# Altium schematic symbol library crystal.SchLib: 43 symbols
Pins are listed as number, name and electrical type; pins without a type are passive.

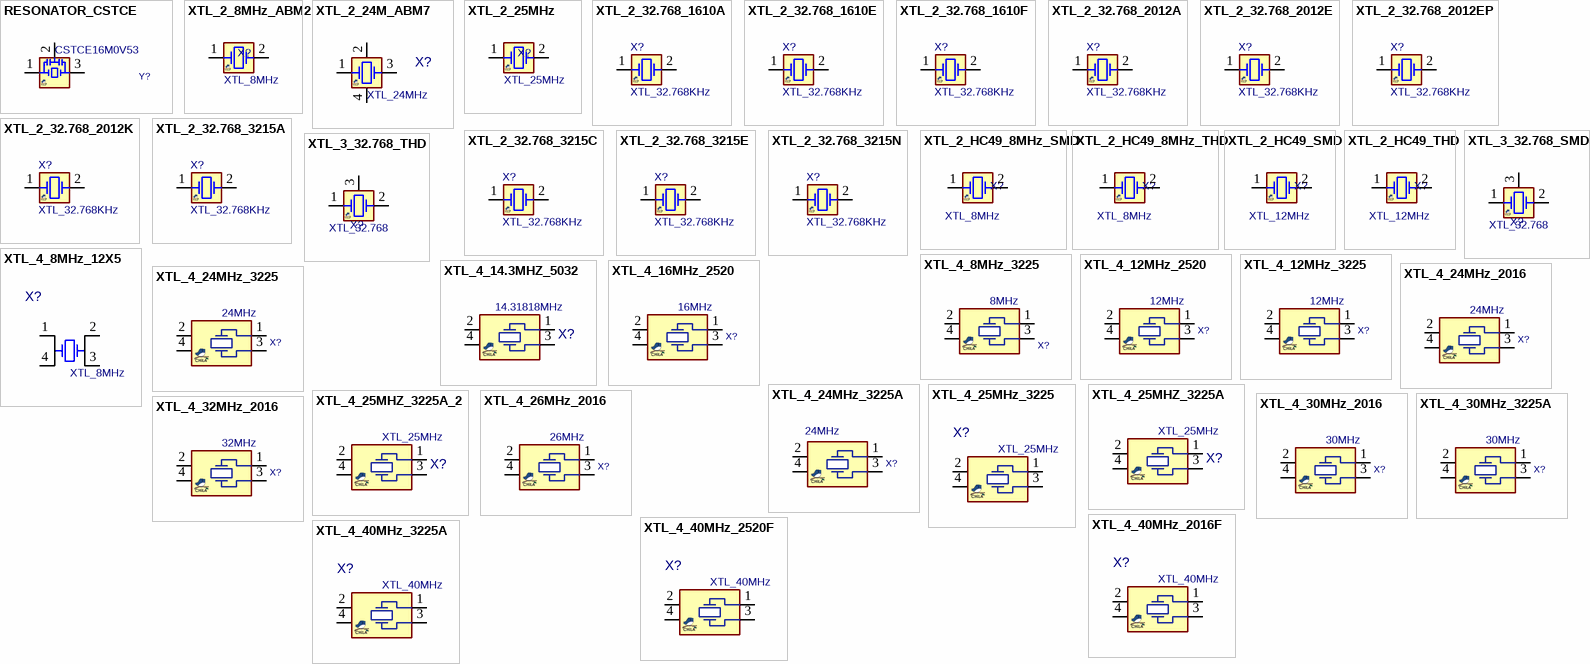
[diagram p0: symbols RESONATOR_CSTCE to XTL_4_40MHz_3225A]

## RESONATOR_CSTCE
designator Y?, comment CSTCE16M0V53
MANF: MURATA; MANF_P#: CSTCE16M0V53-R0; VALUE: CSTCE16M0V53
footprint XTL_3_3213 (Crystal resonator CSTCE 3-lead 3.2 mm x 1.3 mm)
pins: 1 OSC1, 2, 3 OSC2

## XTL_2_8MHz_ABM2
designator X?, comment XTL_8MHz
Crystal 2; MANF: ABRACON; PARAM: 30PPM; PARAM2: 18PF; MANF_P#: ABM2-8.000MHZ-D4Y-T; ASSEMBLY: ASSEMBLY; PRICE: 0.73$; Value: XTL_8MHz
footprint XTL_2_8045 (ABM2 8.0X4.5x1.4mm)
simulation model XTAL (Spice Subcircuit)
pins: 1 OSC1, 2 OSC2

## XTL_2_24M_ABM7
designator X?, comment XTL_24MHz
CRYSTAL,; MANF: ABRACON; PARAM: 50PPM; DESC: DESCRIPTION; DIST#: MOUSER; MANF_P#: ABM7-24.000MHZ-D-2-Y-T; ASSEMBLY: ASSEMBLY; PRICE: PRICE; VALUE: XTL_24MHz
footprint XTL_2_6035 (ABM7 6.2X3.5mm, 6.0X3.5mm)
pins: 1, 2 GND2, 3 2, 4 GND4

## XTL_2_25MHz
designator X?, comment XTL_25MHz
Crystal 2 5X3.2mm; MANF_PART#2: ABM3C-25.000MHZ-D4Y-T; MANF_PART#3: 445I23D25M00000; DIST#: 815-ABM3-25-B2-T; DESC: CLOCK, CRYSTAL, 25MHz; MANF: ABRACON; PARAM: 20PPM; PARAM2: 18PF; MANF_P#: ABM3-25.000MHZ-B2-T; ASSEMBLY: ASSEMBLY; PRICE: *; Value: XTL_25MHz
footprint XTL_2_5032 (ABM3)
simulation model XTAL (Spice Subcircuit)
pins: 1 OSC1, 2 OSC2

## XTL_2_32.768_1610A
designator X?, comment XTL_32.768KHz
Crystal, 32.768KHz, 9pF, 20PPM; MANF: ABRACON; MANF_P#: ABS05-32.768KHZ-9-T; PARAM: -40~85oC; PARAM2: 9pF, 20PPM; PRICE: 0.8$; VALUE: XTL_32.768KHz
footprint XTL_2_1610 (Crystals 1.6 mm x 1.0 mm)
pins: 1 OSC1, 2 OSC2

## XTL_2_32.768_1610E
designator X?, comment XTL_32.768KHz
Crystal, 32.768KHz, 12pF, 20PPM; MANF: ECS; MANF_P#: ECS-.327-12.5-16-TR; PARAM: -40~85oC; PARAM2: 12pF, 20PPM; PRICE: 0.9$; VALUE: XTL_32.768KHz
footprint XTL_2_1610 (Crystals 1.6 mm x 1.0 mm)
pins: 1 OSC1, 2 OSC2

## XTL_2_32.768_1610F
designator X?, comment XTL_32.768KHz
Crystal, 32.768KHz, 12pF, 20PPM; MANF: FOX; MANF_P#: FK161EIHM0.032768; PARAM: -40~85oC; PARAM2: 12pF, 20PPM; PRICE: 1$; VALUE: XTL_32.768KHz
footprint XTL_2_1610 (Crystals 1.6 mm x 1.0 mm)
pins: 1 OSC1, 2 OSC2

## XTL_2_32.768_2012A
designator X?, comment XTL_32.768KHz
Crystal, 32.768KHz, 3pF, 20PPM; MANF: ABRACON; MANF_P#: ABS06-32.768KHz-1-T; PARAM: -40~85oC; PARAM2: 3pF, 20PPM; PRICE: 0.8$; VALUE: XTL_32.768KHz
footprint XTL_2_2012 (ABS06 2.0X1.2mm)
pins: 1 OSC1, 2 OSC2

## XTL_2_32.768_2012E
designator X?, comment XTL_32.768KHz
Crystal, 32.768KHz, 6pF, 20PPM; MANF: ECS; MANF_P#: ECS-.327-6-12-TR; PARAM: -40~85oC; PARAM2: 6pF, 20PPM; PRICE: 0.8$; VALUE: XTL_32.768KHz
footprint XTL_2_2012 (ABS06 2.0X1.2mm)
pins: 1 OSC1, 2 OSC2

## XTL_2_32.768_2012EP
designator X?, comment XTL_32.768KHz
Crystal, 32.768KHz, 12pF, 20PPM; MANF: EPSON; MANF_P#: FC-12M 32.7680KA-A3; PARAM: -40~85oC; PARAM2: 12pF, 20PPM; PRICE: 0.8$; VALUE: XTL_32.768KHz
footprint XTL_2_2012 (ABS06 2.0X1.2mm)
pins: 1 OSC1, 2 OSC2

## XTL_2_32.768_2012K
designator X?, comment XTL_32.768KHz
Crystal, 32.768KHz, 9pF, 20PPM; MANF: AVX/Kyocera; MANF_P#: ST2012SB32768E0HPWBB; PARAM: -40~85oC; PARAM2: 9pF, 20PPM; PRICE: 0.7$; VALUE: XTL_32.768KHz
footprint XTL_2_2012 (ABS06 2.0X1.2mm)
pins: 1 OSC1, 2 OSC2

## XTL_2_32.768_3215A
designator X?, comment XTL_32.768KHz
Crystal, 32.768KHz, 3pF, 20PPM; MANF: ABRACON; MANF_P#: ABS07W-32.768kHz-D-2-T; PARAM: -40~85oC; PARAM2: 3pF, 20PPM; PRICE: 1$; VALUE: XTL_32.768KHz
footprint XTL_2_3215 (ABS07 3.2x1.5mm)
pins: 1 OSC1, 2 OSC2

## XTL_2_32.768_3215C
designator X?, comment XTL_32.768KHz
Crystal, 32.768KHz, 5pF, 20PPM; MANF: CTS; MANF_P#: TFE322T32K7680R; PARAM: -40~85oC; PARAM2: 5pF, 20PPM; PRICE: 0.9$; VALUE: XTL_32.768KHz
footprint XTL_2_3215 (ABS07 3.2x1.5mm)
pins: 1 OSC1, 2 OSC2

## XTL_2_32.768_3215E
designator X?, comment XTL_32.768KHz
Crystal, 32.768KHz, 6pF, 20PPM; MANF: ECS; MANF_P#: ECS-.327-CDX-1128; PARAM: -40~85oC; PARAM2: 6pF, 20PPM; PRICE: 0.6$; VALUE: XTL_32.768KHz
footprint XTL_2_3215 (ABS07 3.2x1.5mm)
pins: 1 OSC1, 2 OSC2

## XTL_2_32.768_3215N
designator X?, comment XTL_32.768KHz
Crystal, 32.768KHz, 6pF, 20PPM; MANF: NDK; MANF_P#: NX3215SA-32.768KHZ; PARAM2: 6/9/12pF, 20PPM; PARAM: -40~125oC; PRICE: 0.6$; VALUE: XTL_32.768KHz
footprint XTL_2_3215 (ABS07 3.2x1.5mm)
pins: 1 OSC1, 2 OSC2

## XTL_2_HC49_8MHz_SMD
designator X?, comment XTL_8MHz
Crystal MOST POPULAR ABL HC49 PACKAGE; MANF: ABRACON; MANF_P#: ABLS-8.000MHZ-B4-T; PARAM: 8MHz, 18pF, 30PPM, -20~70oC; PRICE: 0.3$; VALUE: XTL_8MHz
footprint XTL_2_11X5 (SMD crystal resonator, ABL, ABLS, HC-49, HC49 11X4.5MM)
pins: 1 OSC1, 2 OSC2

## XTL_2_HC49_8MHz_THD
designator X?, comment XTL_8MHz
Crystal MOST POPULAR ABL HC49 PACKAGE; MANF: ABRACON; MANF_P#: ABLS-8.000MHZ-B4-T; PARAM: 8MHz, 18pF, 30PPM, -20~70oC; PRICE: 0.3$; VALUE: XTL_8MHz
footprint XTLT_2 (Crystal PTH HC49S)
pins: 1 OSC1, 2 OSC2

## XTL_2_HC49_SMD
designator X?, comment XTL_12MHz
Crystal MOST POPULAR ABL HC49 PACKAGE; VALUE: XTL_12MHz
footprint XTL_2_11X5 (SMD crystal resonator, ABL, ABLS, HC-49, HC49 11X4.5MM)
pins: 1 OSC1, 2 OSC2

## XTL_2_HC49_THD
designator X?, comment XTL_12MHz
Crystal MOST POPULAR ABL HC49 PACKAGE; VALUE: XTL_12MHz
footprint XTLT_2 (Crystal PTH HC49S)
pins: 1 OSC1, 2 OSC2

## XTL_3_32.768_SMD
designator X?, comment XTL_32.768
Crystal MOST POPULAR PACKAGE; MANF: ABRACON; MANF_P#: AB26T-32.768KHZ; PARAM2: 12pF; PARAM: 20PPM, -40~85°C; VALUE: XTL_32.768
footprint XTL_RTC
pins: 1 OSC1, 2 OSC2, 3 CASE

## XTL_3_32.768_THD
designator X?, comment XTL_32.768
Crystal MOST POPULAR PACKAGE; MANF: ABRACON; MANF_P#: AB26T-32.768KHZ; PARAM2: 12pF; PARAM: 20PPM, -40~85°C; VALUE: XTL_32.768
footprint XTLT_RTC (CRYSTAL RTC SLEEP)
pins: 1 OSC1, 2 OSC2, 3 CASE

## XTL_4_8MHz_12X5
designator X?, comment XTL_8MHz
CRYSTAL 8 MHZ 7pF, 10PPM; MANF: ECS; PARAM: 30PPM, -40~85oC; DIST#: MOUSER; PARAM2: 18pF; MANF_P#: ECS-80-18-18-TR; ASSEMBLY: ASSEMBLY; PRICE: 1.7$; VALUE: XTL_8MHz
footprint XTL_4_12X5 (ABC2, SMD crystal, 11.8X5.5mm)
pins: 1, 2, 3, 4

## XTL_4_8MHz_3225
designator X?, comment 8MHz
Crystal 8MHz; MANF: ECS; MANF_P#: ECS-80-18-33-JGN-TR; PARAM: 30PPM, 20pF; PRICE: 0.5$; VALUE: 8MHz
footprint XTL_4_3225 (CRYSTAL OSCILATOR 3.2X2.5mm)
pins: 1, 2, 3 2, 4

## XTL_4_12MHz_2520
designator X?, comment 12MHz
Crystal 12MHz; MANF: JWT; MANF_P#: CM4012M00020T5074172; PARAM: ±30PPM, 20pF; PRICE: 0.05$; VALUE: 12MHz
footprint XTL_4_2520 (CRYSTAL OSCILATOR 2.5X2.0mm, ABM10, CDFN-4, ASDM)
pins: 1, 2, 3 2, 4

## XTL_4_12MHz_3225
designator X?, comment 12MHz
Crystal 12MHz; MANF: ECS; MANF_P#: ECS-120-18-33-JEM-TR; PARAM: 20PPM, 18pF; PRICE: 0.5$; VALUE: 12MHz
footprint XTL_4_3225 (CRYSTAL OSCILATOR 3.2X2.5mm)
pins: 1, 2, 3 2, 4

## XTL_4_14.3MHZ_5032
designator X?, comment 14.31818MHz
MANF: ABRACON; DESC: DESCRIPTION; DIST#: MOUSER; MANF_P#: ABM3B-14.31818MHZ-10-1-U-T; ASSEMBLY: ASSEMBLY; PARAM: PARAM; PRICE: PRICE; VALUE: 14.31818MHz
footprint XTL_4_5032
pins: 1, 2, 3 2, 4

## XTL_4_16MHz_2520
designator X?, comment 16MHz
Crystal 16MHz; MANF: ABRACON; MANF_P#: ABM10W-16.0000MHZ-4-D1X-T3; PARAM: 10PPM, -40~85oC; PRICE: 0.8$; VALUE: 16MHz
footprint XTL_4_2520 (CRYSTAL OSCILATOR 2.5X2.0mm, ABM10)
pins: 1, 2, 3 2, 4

## XTL_4_24MHz_2016
designator X?, comment 24MHz
Crystal 24MHz; MANF_P#: CN4024M00008001; PARAM2: 30PPM, 8pF; PARAM: -30~85oC; MANF: -; PRICE: 0.5$; VALUE: 24MHz
footprint XTL_4_2016 (ABM11)
pins: 1, 2, 3 2, 4

## XTL_4_24MHz_3225
designator X?, comment 24MHz
Crystal 24MHz; MANF: EPSON; MANF_P#: TSX-3225 24.0000MF10Z-C3; PARAM2: 10PPM, 18pF; PARAM: -20~75oC; PRICE: 0.5$; VALUE: 24MHz
footprint XTL_4_3225 (CRYSTAL OSCILATOR 3.2X2.5mm)
pins: 1, 2, 3 2, 4

## XTL_4_24MHz_3225A
designator X?, comment 24MHz
Crystal 24MHz; MANF: ABRACON; MANF_P#: ABM8W-24.0000MHZ-4-D1X-T3; PARAM2: 10PPM, 4pF; PARAM: -40~85oC; PRICE: 0.7$; VALUE: 24MHz
footprint XTL_4_3225 (CRYSTAL OSCILATOR 3.2X2.5mm)
pins: 1, 2, 3 2, 4

## XTL_4_25MHz_3225
designator X?, comment XTL_25MHz
CRYSTAL 25.00 MHZ 18pF, 10PPM; MANF: EPSON; DESC: DESCRIPTION; DIST#: MOUSER; PARAM2: PARAM; MANF_P#: TSX-3225 25.0000MF10P-C3; ASSEMBLY: ASSEMBLY; PARAM: 10PPM; PRICE: 0.5$; VALUE: XTL_25MHz
footprint XTL_4_3225 (CRYSTAL OSCILATOR 3.2X2.5mm)
pins: 1, 2, 3 2, 4

## XTL_4_25MHZ_3225A
designator X?, comment XTL_25MHz
CRYSTAL 25.00 MHZ 18pF, 50PPM; MANF: ABRACON; DESC: DESCRIPTION; DIST#: MOUSER; MANF_P#: ABM8-25.000MHZ-B2-T; PARAM2: 0.5$; ASSEMBLY: ASSEMBLY; PARAM: 50PPM; PRICE: PRICE; VALUE: XTL_25MHz
footprint XTL_4_3225 (CRYSTAL OSCILATOR 3.2X2.5mm)
pins: 1, 2, 3 2, 4

## XTL_4_25MHZ_3225A_2
designator X?, comment XTL_25MHz
CRYSTAL 25.00 MHZ 4pF, 10PPM; MANF: ABRACON; PARAM: 10PPM, 4pF, -40~85oC; DESC: DESCRIPTION; DIST#: MOUSER; MANF_P#: ABM8W-25.0000MHZ-4-D1X-T3; PARAM2: 0.6$; ASSEMBLY: ASSEMBLY; PRICE: PRICE; VALUE: XTL_25MHz
footprint XTL_4_3225 (CRYSTAL OSCILATOR 3.2X2.5mm)
pins: 1, 2, 3 2, 4

## XTL_4_26MHz_2016
designator X?, comment 26MHz
Crystal 26MHz; MANF: MURATA; MANF_P#: XRCGB26M000F1H00R0; PARAM2: 10ppm; PARAM: 6pF; PRICE: 1= 0.5$; VALUE: 26MHz
footprint XTL_4_2016
pins: 1, 2, 3 2, 4

## XTL_4_30MHz_2016
designator X?, comment 30MHz
Crystal 30MHz; MANF: MURATA; MANF_P#: XRCGB30M000F2P00R0; PARAM2: 30ppm; PARAM: 8pF; PRICE: 1= 0.6$; VALUE: 30MHz
footprint XTL_4_2016
pins: 1, 2, 3 2, 4

## XTL_4_30MHz_3225A
designator X?, comment 30MHz
Crystal 30MHz; MANF: ABRACON; MANF_P#: ABM8W-30.0000MHZ-6-D1X-T3; PARAM2: 10ppm; PARAM: 6pF; PRICE: 1= 0.66$; VALUE: 30MHz
footprint XTL_4_3225GEN (Footprint not found)
pins: 1, 2, 3 2, 4

## XTL_4_32MHz_2016
designator X?, comment 32MHz
Crystal 32MHz; MANF: MURATA; MANF_P#: XRCGB32M000FBH50R0; PARAM2: 10ppm; PARAM: 6pF; PRICE: 1= 0.3$; VALUE: 32MHz
footprint XTL_4_2016
pins: 1, 2, 3 2, 4

## XTL_4_40MHz_2016F
designator X?, comment XTL_40MHz
CRYSTAL 40.00 MHZ 7pF, 10PPM; MANF: DIODES; PARAM: 10PPM, -30~85oC; DESC: X1E000021036701; DIST#: MOUSER; PARAM2: 7pF, 40OhmESR; MANF_P#: FW400WFQA1; ASSEMBLY: ASSEMBLY; PRICE: 1$; VALUE: XTL_40MHz
footprint XTL_4_2016 (ABM11)
pins: 1, 2, 3 2, 4

## XTL_4_40MHz_2520F
designator X?, comment XTL_40MHz
CRYSTAL 40.00 MHZ 8pF, 10PPM; MANF: DIODES; PARAM: 10PPM, -30~85oC; DESC: X1E000021036701; DIST#: MOUSER; PARAM2: 8pF, 30OhmESR; MANF_P#: FH4000074Z; ASSEMBLY: ASSEMBLY; PRICE: 1$; VALUE: XTL_40MHz
footprint XTL_4_2520 (CRYSTAL OSCILATOR 2.5X2.0mm, ABM10)
pins: 1, 2, 3 2, 4

## XTL_4_40MHz_3225A
designator X?, comment XTL_40MHz
CRYSTAL 40.00 MHZ 4pF, 10PPM; MANF: ABRACON; PARAM: 10PPM, -20~70oC; DESC: X1E000021036701; DIST#: MOUSER; PARAM2: 4pF, 40OhmESR; MANF_P#: ABM8W-40.0000MHZ-4-B1U-T3; ASSEMBLY: ASSEMBLY; PRICE: 0.6$; VALUE: XTL_40MHz
footprint XTL_4_3225 (CRYSTAL OSCILATOR 3.2X2.5mm)
pins: 1, 2, 3 2, 4

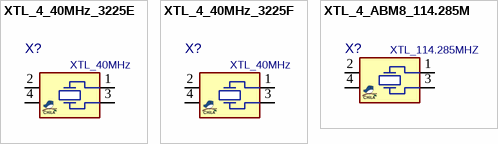
[diagram p1: symbols XTL_4_40MHz_3225E to XTL_4_ABM8_114.285M]

## XTL_4_40MHz_3225E
designator X?, comment XTL_40MHz
CRYSTAL 40.00 MHZ 7pF, 10PPM; MANF: EPSON; PARAM: 10PPM, -30~85oC; DESC: X1E000021036701; DIST#: MOUSER; PARAM2: 7pF, 40OhmESR; MANF_P#: TSX-3225 40.0000MF10Y-N6, TSX-3225 40.0000MF10Y-T6, TSX-3225 40.0000MF10Y-K6; ASSEMBLY: ASSEMBLY; PRICE: 0.34$; VALUE: XTL_40MHz
footprint XTL_4_3225 (CRYSTAL OSCILATOR 3.2X2.5mm)
pins: 1, 2, 3 2, 4

## XTL_4_40MHz_3225F
designator X?, comment XTL_40MHz
CRYSTAL 40.00 MHZ 7pF, 10PPM; MANF: DIODES; PARAM: 10PPM, -30~85oC; DESC: X1E000021036701; DIST#: MOUSER; PARAM2: 7pF, 40OhmESR; MANF_P#: FL400WFQA1; ASSEMBLY: ASSEMBLY; PRICE: 0.7$; VALUE: XTL_40MHz
footprint XTL_4_3225GEN (Footprint not found)
pins: 1, 2, 3 2, 4

## XTL_4_ABM8_114.285M
designator X?, comment XTL_114.285MHZ
CRYSTAL 114.285 MHZ 18PF SMD; MANF: ABRACON; DESC: DESCRIPTION; DIST#: MOUSER; PARAM2: PARAM; PARAM: 20PPM; MANF_P#: ABM8-166-114.285MHZ-T; ASSEMBLY: ASSEMBLY; PRICE: PRICE; VALUE: XTL_114.285MHZ
footprint XTL_4_3225 (CRYSTAL OSCILATOR 3.2X2.5mm)
pins: 1, 2, 3 2, 4